# Altium schematic symbol library IC_74xx02.SchLib: 1 symbol
Pins are listed as number, name and electrical type; pins without a type are passive.

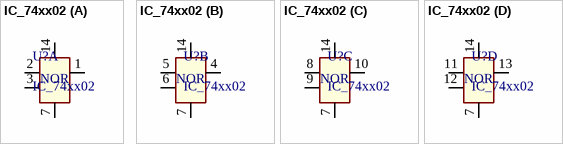
[diagram p0: symbol IC_74xx02]

## IC_74xx02
designator U?
part A pins: 1, 2, 3, 7, 14
part B pins: 4, 5, 6, 7, 14
part C pins: 7, 8, 9, 10, 14
part D pins: 7, 11, 12, 13, 14
part A text: NOR
part B text: NOR
part C text: NOR
part D text: NOR